# EAGLE library part BMP085 (library inanna)
BMP085 barometric pressure sensor Sparkfun SEN-09694
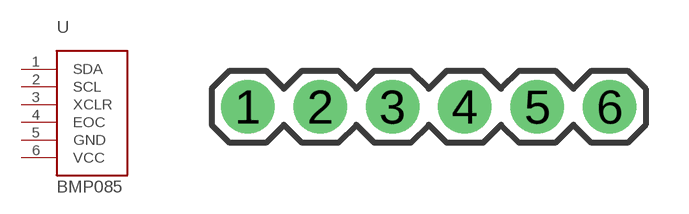
[diagram p3: symbol with the pads of 6-PIN_0.1"; footprint 6-PIN_0.1"]

Designator prefix -

## BMP085  [6-PIN_0.1"]
1  SDA
2  SCL
3  XCLR
4  EOC
5  GND
6  VCC

## Footprint 6-PIN_0.1" (pad centres in mm)
drill 1.016 pad 1.88: 1 -6.35,0; 2 -3.81,0; 3 -1.27,0; 4 1.27,0; 5 3.81,0; 6 6.35,0